# Altium schematic symbol library 08055G104ZAT1A.SchLib: 1 symbol
Pins are listed as number, name and electrical type; pins without a type are passive.

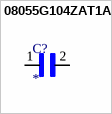
[diagram p0: symbol 08055G104ZAT1A]

## 08055G104ZAT1A
designator C?
CAPACITOR, 0805, 100NF, 50V; Capacitor Application:General Purpose; Dielectric Characteristic:Y5V; Capacitance:0.1ÂµF; Capacitance Tolerance:-20% to +80%; Voltage Rating:50V; Capacitor Case Style:0805; Capacitor Mounting:SMD; Operating Temperature Range:-25Â°C to +85Â°C; SVHC:No SVHC (15-Dec-2010); External Depth:0.95mm; External Length / Height:2mm; External Width:1.25mm; Insulation Resistance:10000Mohm; No. of Pins:2; Operating Temperature Max:85Â°C; Operating Temperature Min:-25Â°C; Package / Case:0805; Reel Quantity:3000; Tape Width:8mm; Temperature Coefficient:+22%, -82%; Terminal Type:Surface Mount (SMD, SMT); Termination Type:SMD; Tolerance +:80%; Tolerance -:20%; Voltage Rating VDC:50V; MP: 08055G104ZAT1A; MF: {'manufacturer': u'AVX'}; Package: None; Availability: Unavailable; Value: *; Price: None
footprint CAPC2012X140N
pins: 1, 2